# EAGLE library part 1184C (library con-pc104)
COMMCON CONNECTOR PC/104
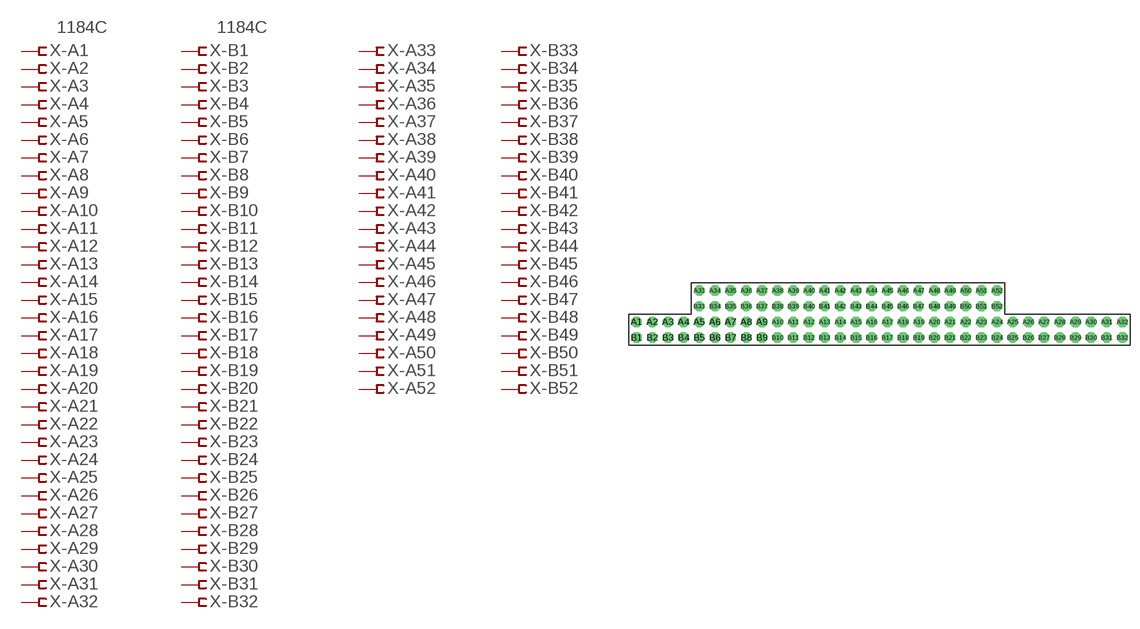
[diagram p2: symbol with the pads of 1184C; footprint 1184C]

Designator prefix X; gates -A1=PIN-V -A2=PIN-B -A3=PIN-B -A4=PIN-B -A5=PIN-B -A6=PIN-B -A7=PIN-B -A8=PIN-B -A9=PIN-B -A10=PIN-B -A11=PIN-B -A12=PIN-B -A13=PIN-B -A14=PIN-B -A15=PIN-B -A16=PIN-B -A17=PIN-B -A18=PIN-B -A19=PIN-B -A20=PIN-B -A21=PIN-B -A22=PIN-B -A23=PIN-B -A24=PIN-B -A25=PIN-B -A26=PIN-B -A27=PIN-B -A28=PIN-B -A29=PIN-B -A30=PIN-B -A31=PIN-B -A32=PIN-B -B1=PIN-V -B2=PIN-B -B3=PIN-B -B4=PIN-B -B5=PIN-B -B6=PIN-B -B7=PIN-B -B8=PIN-B -B9=PIN-B -B10=PIN-B -B11=PIN-B -B12=PIN-B -B13=PIN-B -B14=PIN-B -B15=PIN-B -B16=PIN-B -B17=PIN-B -B18=PIN-B -B19=PIN-B -B20=PIN-B -B21=PIN-B -B22=PIN-B -B23=PIN-B -B24=PIN-B -B25=PIN-B -B26=PIN-B -B27=PIN-B -B28=PIN-B -B29=PIN-B -B30=PIN-B -B31=PIN-B -B32=PIN-B -A33=PIN-B -A34=PIN-B -A35=PIN-B -A36=PIN-B -A37=PIN-B -A38=PIN-B -A39=PIN-B -A40=PIN-B -A41=PIN-B -A42=PIN-B -A43=PIN-B -A44=PIN-B -A45=PIN-B -A46=PIN-B -A47=PIN-B -A48=PIN-B -A49=PIN-B -A50=PIN-B -A51=PIN-B -A52=PIN-B -B33=PIN-B -B34=PIN-B -B35=PIN-B -B36=PIN-B -B37=PIN-B -B38=PIN-B -B39=PIN-B -B40=PIN-B -B41=PIN-B -B42=PIN-B -B43=PIN-B -B44=PIN-B -B45=PIN-B -B46=PIN-B -B47=PIN-B -B48=PIN-B -B49=PIN-B -B50=PIN-B -B51=PIN-B -B52=PIN-B

## 1184C  [1184C]
A1  -A1:1  pas
A2  -A2:1  pas
A3  -A3:1  pas
A4  -A4:1  pas
A5  -A5:1  pas
A6  -A6:1  pas
A7  -A7:1  pas
A8  -A8:1  pas
A9  -A9:1  pas
A10  -A10:1  pas
A11  -A11:1  pas
A12  -A12:1  pas
A13  -A13:1  pas
A14  -A14:1  pas
A15  -A15:1  pas
A16  -A16:1  pas
A17  -A17:1  pas
A18  -A18:1  pas
A19  -A19:1  pas
A20  -A20:1  pas
A21  -A21:1  pas
A22  -A22:1  pas
A23  -A23:1  pas
A24  -A24:1  pas
A25  -A25:1  pas
A26  -A26:1  pas
A27  -A27:1  pas
A28  -A28:1  pas
A29  -A29:1  pas
A30  -A30:1  pas
A31  -A31:1  pas
A32  -A32:1  pas
A33  -A33:1  pas
A34  -A34:1  pas
A35  -A35:1  pas
A36  -A36:1  pas
A37  -A37:1  pas
A38  -A38:1  pas
A39  -A39:1  pas
A40  -A40:1  pas
A41  -A41:1  pas
A42  -A42:1  pas
A43  -A43:1  pas
A44  -A44:1  pas
A45  -A45:1  pas
A46  -A46:1  pas
A47  -A47:1  pas
A48  -A48:1  pas
A49  -A49:1  pas
A50  -A50:1  pas
A51  -A51:1  pas
A52  -A52:1  pas
B1  -B1:1  pas
B2  -B2:1  pas
B3  -B3:1  pas
B4  -B4:1  pas
B5  -B5:1  pas
B6  -B6:1  pas
B7  -B7:1  pas
B8  -B8:1  pas
B9  -B9:1  pas
B10  -B10:1  pas
B11  -B11:1  pas
B12  -B12:1  pas
B13  -B13:1  pas
B14  -B14:1  pas
B15  -B15:1  pas
B16  -B16:1  pas
B17  -B17:1  pas
B18  -B18:1  pas
B19  -B19:1  pas
B20  -B20:1  pas
B21  -B21:1  pas
B22  -B22:1  pas
B23  -B23:1  pas
B24  -B24:1  pas
B25  -B25:1  pas
B26  -B26:1  pas
B27  -B27:1  pas
B28  -B28:1  pas
B29  -B29:1  pas
B30  -B30:1  pas
B31  -B31:1  pas
B32  -B32:1  pas
B33  -B33:1  pas
B34  -B34:1  pas
B35  -B35:1  pas
B36  -B36:1  pas
B37  -B37:1  pas
B38  -B38:1  pas
B39  -B39:1  pas
B40  -B40:1  pas
B41  -B41:1  pas
B42  -B42:1  pas
B43  -B43:1  pas
B44  -B44:1  pas
B45  -B45:1  pas
B46  -B46:1  pas
B47  -B47:1  pas
B48  -B48:1  pas
B49  -B49:1  pas
B50  -B50:1  pas
B51  -B51:1  pas
B52  -B52:1  pas

## Footprint 1184C (pad centres in mm)
COMMCON CONNECTOR PC/104
drill 1.118 octagon: A1 -39.37,-1.27; A2 -36.83,-1.27; A3 -34.29,-1.27; A4 -31.75,-1.27; A5 -29.21,-1.27; A6 -26.67,-1.27; A7 -24.13,-1.27; A8 -21.59,-1.27; A9 -19.05,-1.27; A10 -16.51,-1.27; A11 -13.97,-1.27; A12 -11.43,-1.27; A13 -8.89,-1.27; A14 -6.35,-1.27; A15 -3.81,-1.27; A16 -1.27,-1.27; A17 1.27,-1.27; A18 3.81,-1.27; A19 6.35,-1.27; A20 8.89,-1.27; A21 11.43,-1.27; A22 13.97,-1.27; A23 16.51,-1.27; A24 19.05,-1.27; A25 21.59,-1.27; A26 24.13,-1.27; A27 26.67,-1.27; A28 29.21,-1.27; A29 31.75,-1.27; A30 34.29,-1.27; A31 36.83,-1.27; A32 39.37,-1.27; A33 -29.21,3.81; A34 -26.67,3.81; A35 -24.13,3.81; A36 -21.59,3.81; A37 -19.05,3.81; A38 -16.51,3.81; A39 -13.97,3.81; A40 -11.43,3.81; A41 -8.89,3.81; A42 -6.35,3.81; A43 -3.81,3.81; A44 -1.27,3.81; A45 1.27,3.81; A46 3.81,3.81; A47 6.35,3.81; A48 8.89,3.81; A49 11.43,3.81; A50 13.97,3.81; A51 16.51,3.81; A52 19.05,3.81; B1 -39.37,-3.81; B2 -36.83,-3.81; B3 -34.29,-3.81; B4 -31.75,-3.81; B5 -29.21,-3.81; B6 -26.67,-3.81; B7 -24.13,-3.81; B8 -21.59,-3.81; B9 -19.05,-3.81; B10 -16.51,-3.81; B11 -13.97,-3.81; B12 -11.43,-3.81; B13 -8.89,-3.81; B14 -6.35,-3.81; B15 -3.81,-3.81; B16 -1.27,-3.81; B17 1.27,-3.81; B18 3.81,-3.81; B19 6.35,-3.81; B20 8.89,-3.81; B21 11.43,-3.81; B22 13.97,-3.81; B23 16.51,-3.81; B24 19.05,-3.81; B25 21.59,-3.81; B26 24.13,-3.81; B27 26.67,-3.81; B28 29.21,-3.81; B29 31.75,-3.81; B30 34.29,-3.81; B31 36.83,-3.81; B32 39.37,-3.81; B33 -29.21,1.27; B34 -26.67,1.27; B35 -24.13,1.27; B36 -21.59,1.27; B37 -19.05,1.27; B38 -16.51,1.27; B39 -13.97,1.27; B40 -11.43,1.27; B41 -8.89,1.27; B42 -6.35,1.27; B43 -3.81,1.27; B44 -1.27,1.27; B45 1.27,1.27; B46 3.81,1.27; B47 6.35,1.27; B48 8.89,1.27; B49 11.43,1.27; B50 13.97,1.27; B51 16.51,1.27; B52 19.05,1.27